# Altium schematic symbol library ESQ-107-23-L-D.SchLib: 1 symbol
Pins are listed as number, name and electrical type; pins without a type are passive.

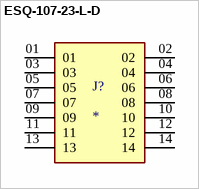
[diagram p0: symbol ESQ-107-23-L-D]

## ESQ-107-23-L-D
designator J?
MP: ESQ-107-23-L-D; Price: None; Value: *; Package: None; Availability: Unavailable
footprint SAMTEC_ESQ-107-23-L-D
pins: 01, 02, 03, 04, 05, 06, 07, 08, 09, 10, 11, 12, 13, 14